# EAGLE library part SM125-M2 (library sonmicro)
125KHz RFID Module without RS232 IC, 2.54 mm pin pitch - 2nd Generation. Use for SM125-M1 replacement. For new designs SM1250-Mini or SM1251-SMD is recommended.
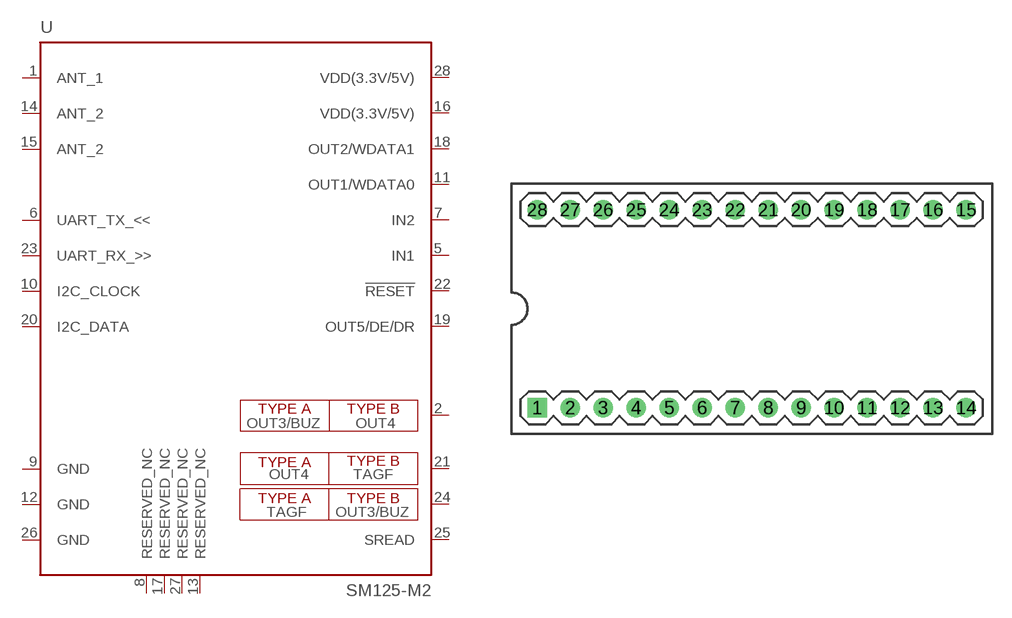
[diagram p4: symbol with the pads of SM125-M2; footprint SM125-M2]

Designator prefix -

## SM125-M2  [SM125-M2]
1  ANT_1  pas
2  OUT4/OUT3/BUZ  pas
5  IN1  pas
6  UART_TX_<<  pas
7  IN2  pas
8  RESERVED_NC  pas
9  GND
10  I2C_CLOCK  pas
11  OUT1/WDATA0  pas
12  GND  pas
13  RESERVED_NC  pas
14  ANT_2  pas
15  ANT_2  pas
16  VDD(3.3V/5V)  pas
17  RESERVED_NC  pas
18  OUT2/WDATA1  pas
19  OUT5/DE/DR  pas
20  I2C_DATA  pas
21  TAGF/OUT4  pas
22  !RESET!  pas
23  UART_RX_>>  pas
24  OUT3/BUZ/TAGF  pas
25  SREAD  pas
26  GND
27  RESERVED_NC  pas
28  VDD(3.3V/5V)  pas

## Footprint SM125-M2 (pad centres in mm)
28 pin 2.54mm pin pitch
drill 0.9 pad 1.5 square: 1 -16.51,-7.62
drill 0.9 pad 1.5: 2 -13.97,-7.62; 3 -11.43,-7.62; 4 -8.89,-7.62; 5 -6.35,-7.62; 6 -3.81,-7.62; 7 -1.27,-7.62; 8 1.27,-7.62; 9 3.81,-7.62; 10 6.35,-7.62; 11 8.89,-7.62; 12 11.43,-7.62; 13 13.97,-7.62; 14 16.51,-7.62; 15 16.51,7.62; 16 13.97,7.62; 17 11.43,7.62; 18 8.89,7.62; 19 6.35,7.62; 20 3.81,7.62; 21 1.27,7.62; 22 -1.27,7.62; 23 -3.81,7.62; 24 -6.35,7.62; 25 -8.89,7.62; 26 -11.43,7.62; 27 -13.97,7.62; 28 -16.51,7.62